# EAGLE library part 418217170909 (library Wurth_Elektronik_Electromechanic_Switch_rev16b)
WS-RA 2.54 mm right angled compact THT Dip Switch with flat actuator, 9 Pole
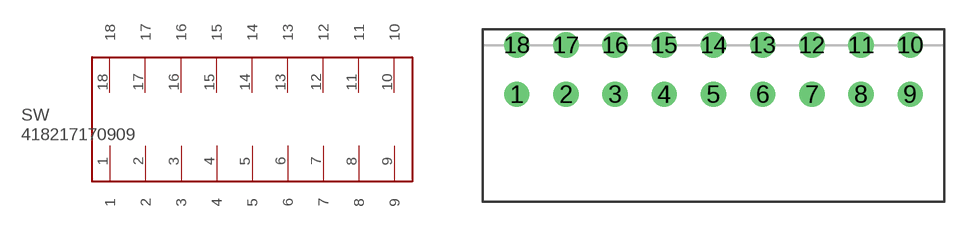
[diagram p72: symbol with the pads of 418217170909; footprint 418217170909]

Designator prefix SW

## 418217170909  [418217170909]
1  1
2  2
3  3
4  4
5  5
6  6
7  7
8  8
9  9
10  10
11  11
12  12
13  13
14  14
15  15
16  16
17  17
18  18

## Footprint 418217170909 (pad centres in mm)
WS-RA 2.54 mm right angled compact THT Dip Switch with flat actuator, 9 Pole
drill 0.8: 1 -10.16,-1.27; 2 -7.62,-1.27; 3 -5.08,-1.27; 4 -2.54,-1.27; 5 0,-1.27; 6 2.54,-1.27; 7 5.08,-1.27; 8 7.62,-1.27; 9 10.16,-1.27; 10 10.16,1.27; 11 7.62,1.27; 12 5.08,1.27; 13 2.54,1.27; 14 0,1.27; 15 -2.54,1.27; 16 -5.08,1.27; 17 -7.62,1.27; 18 -10.16,1.27